# Altium schematic symbol library 0805W8F4022T5E.SchLib: 1 symbol
Pins are listed as number, name and electrical type; pins without a type are passive.

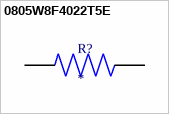
[diagram p0: symbol 0805W8F4022T5E]

## 0805W8F4022T5E
designator R?
MF: {'manufacturer': u'Uni-Royal'}; MP: 0805W8F4022T5E; Package: None; Price: None; Value: *; Availability: Unavailable
footprint RESC2012X65N
pins: 1, 2